# Altium schematic symbol library IRLL014TRPBF.SchLib: 1 symbol
Pins are listed as number, name and electrical type; pins without a type are passive.

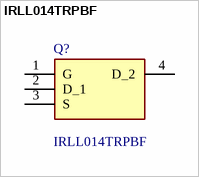
[diagram p0: symbol IRLL014TRPBF]

## IRLL014TRPBF
designator Q?
N channel  ;VBRDSS 60 V;  RDSon 200 mOhm; Manufacturer_Name: Vishay; Geometry.Height: 1.8mm; Mouser Part Number: 844-IRLL014TRPBF; Mouser Price/Stock: https://www.mouser.co.uk/ProductDetail/Vishay-Semiconductors/IRLL014TRPBF?qs=I1ZA2VTqfvQIhIILK63hKw%3D%3D; Manufacturer_Part_Number: IRLL014TRPBF; Datasheet Link: http://www.vishay.com/docs/91319/sihll014.pdf
footprint SOT230P700X180-4N
pins: 1 G, 2 D_1, 3 S, 4 D_2